# EAGLE library part MAX11101 (library RoboJackets-ICs)
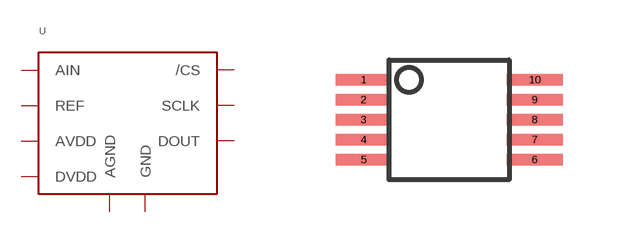
[diagram p13: symbol with the pads of UMAX-10; footprint UMAX-10]

Designator prefix U

## MAX11101  [UMAX-10]
1  DOUT
2  GND
3  DVDD
4  AGND
5  AIN
6  REF
7  AVDD
8  AGND
9  /CS
10  SCLK

## Footprint UMAX-10 (pad centres in mm)
smd 1.4 x 0.28: 1 -2.14,1; 2 -2.14,0.5; 3 -2.14,0; 4 -2.14,-0.5; 5 -2.14,-1; 6 2.14,-1; 7 2.14,-0.5; 8 2.14,0; 9 2.14,0.5; 10 2.14,1